# Altium footprint library GRM31CR61E476ME44K.PcbLib: 1 footprints
Each footprint in its own frame and in the unit in brackets; x right, y up, seen from the top. Pads: shape width x height; smd on the part's side, far side on the other; paste and mask are expansions set on the pad; w line width, h text height; cw(c..) or ccw(c..) is an arc to the next point about the centre after c.
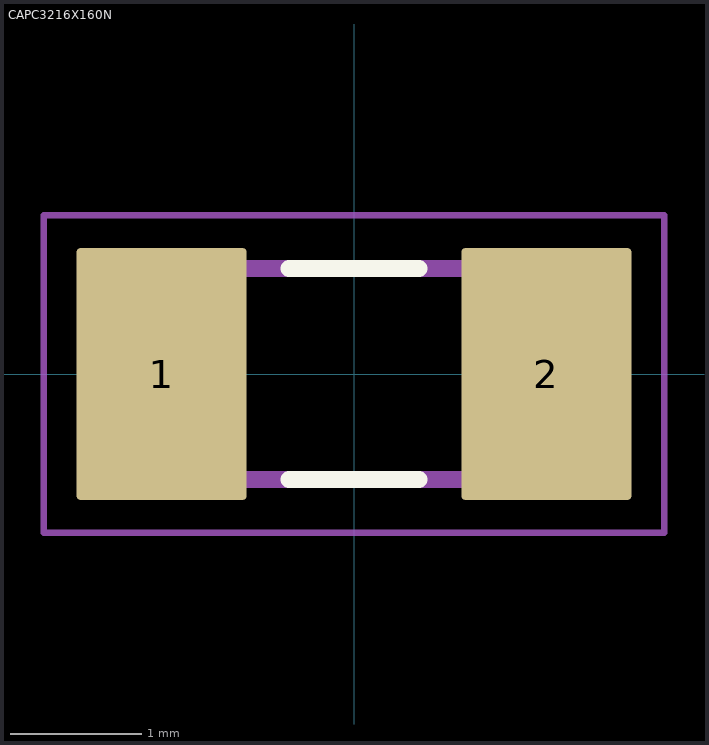
[diagram p0: the footprint, top view; thin cyan lines are the x and y axes]

## CAPC3216X160N [mm]
pads (2):
  rrect4% 1.29x1.91 smd: 1(-1.46,0) 2(1.46,0)
Top Overlay:
  lines w0.127: -0.495,-0.8 0.495,-0.8 ; -0.495,0.8 0.495,0.8
Mechanical 13:
  lines w0.127: -1.6,-0.8 -1.6,0.8 1.6,0.8 1.6,-0.8 -1.6,-0.8
Mechanical 15:
  lines w0.05: -2.355,-1.205 -2.355,1.205 2.355,1.205 2.355,-1.205 -2.355,-1.205
3D body "step_temp.STEP": height 1.8, standoff 0, extent -1.6,-0.8 1.6,0.8